# Altium schematic symbol library SCH - POWER - LINEAR VREG - TI LP3990-1P2DBV.SchLib: 1 symbol
Pins are listed as number, name and electrical type; pins without a type are passive.

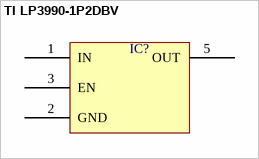
[diagram p0: symbol TI LP3990-1P2DBV]

## TI LP3990-1P2DBV
designator IC?  (value not drawn)
pins: 1 IN, 2 GND, 3 EN, 5 OUT